# Altium footprint library SG_Harness_wires.PcbLib: 4 footprints
Each footprint in its own frame and in the unit in brackets; x right, y up, seen from the top. Pads: shape width x height; smd on the part's side, far side on the other; paste and mask are expansions set on the pad; w line width, h text height; cw(c..) or ccw(c..) is an arc to the next point about the centre after c.

## Wires_1 [mm]
3D body: height 15, standoff 0, extent -1,-1 1,1
3D body: height 10, standoff 0, extent -2,-2 2,2

## Wires_2 [mm]
3D body: height 15, standoff 0, extent 4,-1 6,1
3D body: height 10, standoff 0, extent 3,-2 7,2
3D body: height 15, standoff 0, extent -1,-1 1,1
3D body: height 10, standoff 0, extent -2,-2 2,2

## Wires_3 [mm]
3D body: height 10, standoff 0, extent -2,-2 2,2
3D body: height 15, standoff 0, extent -1,-1 1,1
3D body: height 10, standoff 0, extent 3,-2 7,2
3D body: height 15, standoff 0, extent 4,-1 6,1
3D body: height 10, standoff 0, extent 8,-2 12,2
3D body: height 15, standoff 0, extent 9,-1 11,1

## Wires_4 [mm]
3D body: height 10, standoff 0, extent 13,-2 17,2
3D body: height 15, standoff 0, extent 14,-1 16,1
3D body: height 10, standoff 0, extent -2,-2 2,2
3D body: height 15, standoff 0, extent -1,-1 1,1
3D body: height 10, standoff 0, extent 3,-2 7,2
3D body: height 15, standoff 0, extent 4,-1 6,1
3D body: height 10, standoff 0, extent 8,-2 12,2
3D body: height 15, standoff 0, extent 9,-1 11,1